# Altium schematic symbol library TF-01A.SchLib: 1 symbol
Pins are listed as number, name and electrical type; pins without a type are passive.

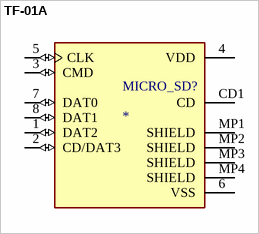
[diagram p0: symbol TF-01A]

## TF-01A
designator MICRO_SD?
Standard Card Edge Connectors; MP: TF-01A; MF: HRO Electronics Co., Ltd.; Price: None; Availability: Not in stock; Package: Package; SnapEDA_Link: https://www.snapeda.com/parts/TF-01A/HRO+Electronics+Co.%252C+Ltd./view-part/?ref=snap; Check_prices: https://www.snapeda.com/parts/TF-01A/HRO+Electronics+Co.%252C+Ltd./view-part/?ref=eda; Value: *
footprint TF-01A
pins: 1 DAT2 (io), 2 CD/DAT3 (io), 3 CMD (io), 4 VDD (power), 5 CLK (io), 6 VSS (power), 7 DAT0 (io), 8 DAT1 (io), CD1 CD, MP1 SHIELD (power), MP2 SHIELD (power), MP3 SHIELD (power), MP4 SHIELD (power)